# Altium footprint library Passive components.PcbLib: 16 footprints
Each footprint in its own frame and in the unit in brackets; x right, y up, seen from the top. Pads: shape width x height; smd on the part's side, far side on the other; paste and mask are expansions set on the pad; w line width, h text height; cw(c..) or ccw(c..) is an arc to the next point about the centre after c.
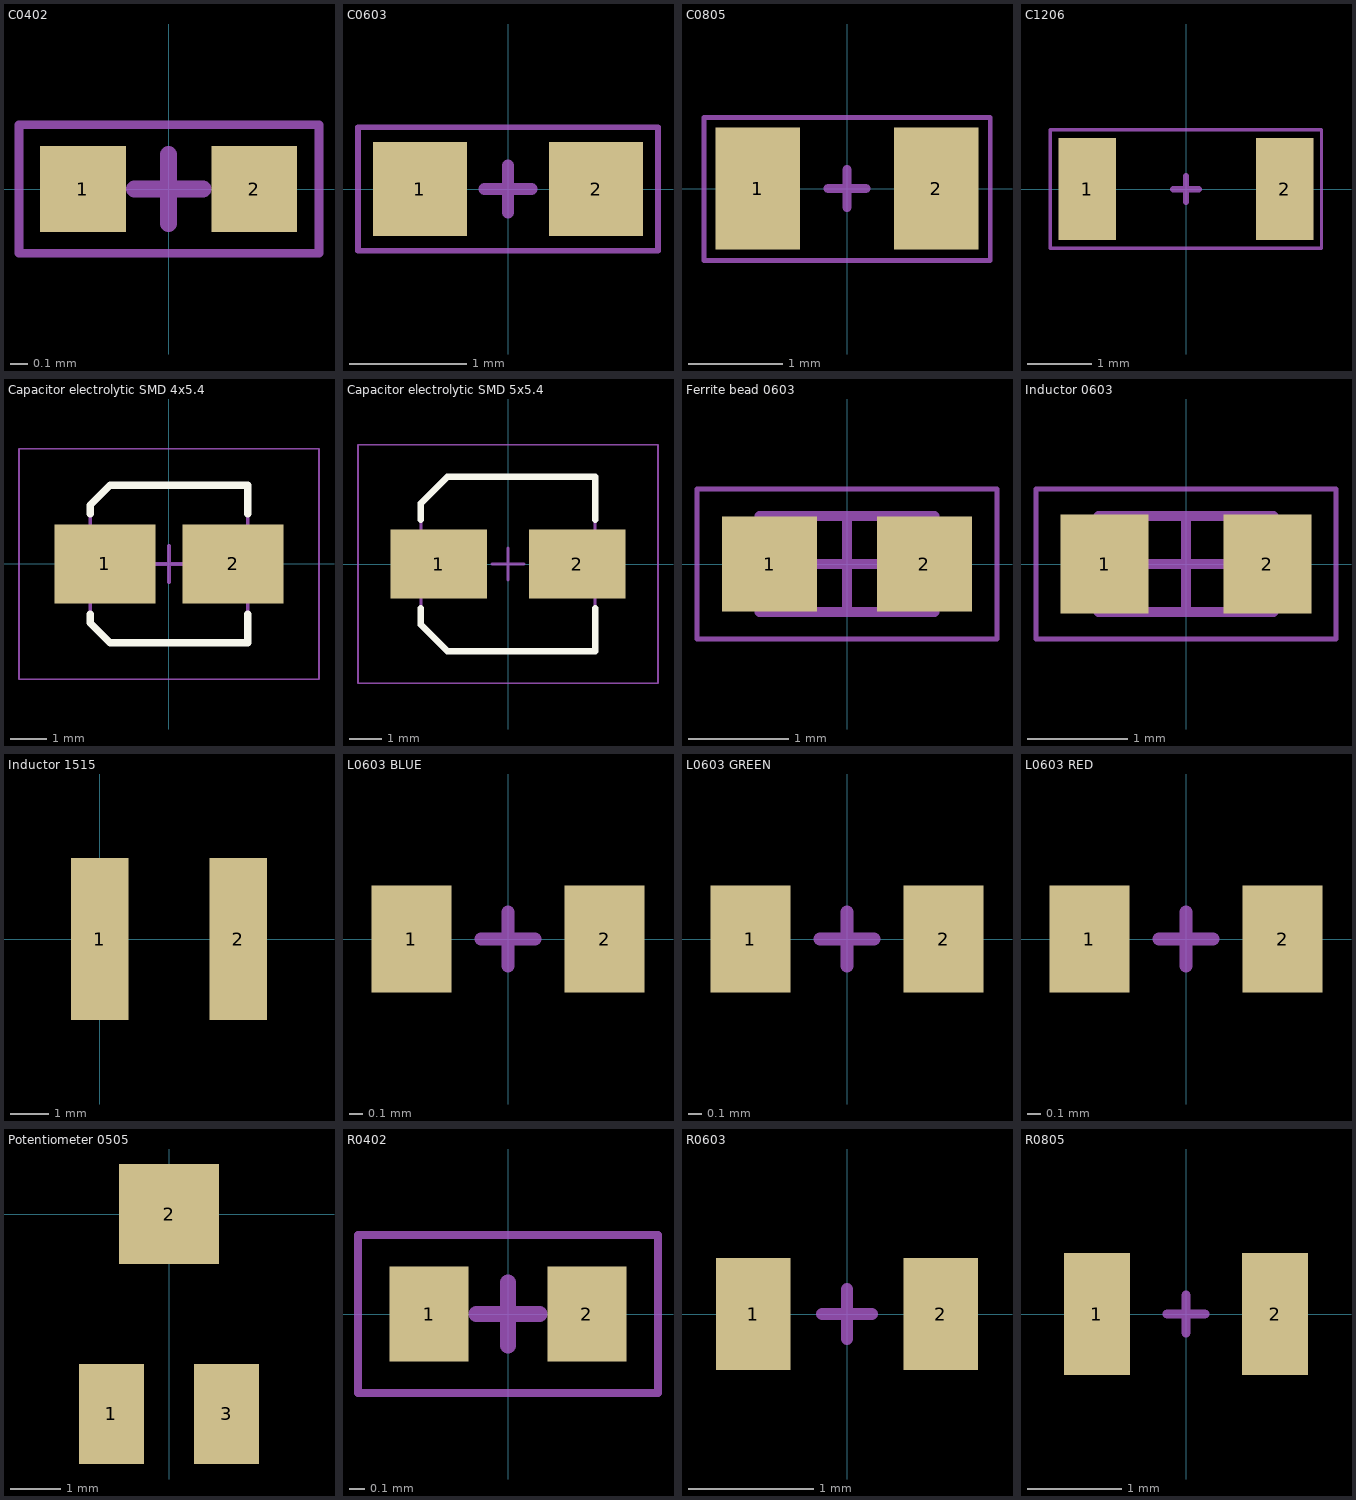
[diagram p0: the footprints below, top view; thin cyan lines are the x and y axes]

## C0402 [mm]
pads (2):
  rect 0.5x0.5 smd: 1(-0.5,0) 2(0.5,0)
Courtyard Top:
  lines w0.05: -0.873,-0.375 -0.873,0.376 0.877,0.376 0.877,-0.375 -0.873,-0.375
  lines w0.1: -0.2,0 0.2,0 ; 0,-0.2 0,0.2
3D body "User Library-C0402-1.STEP": height 0.5, standoff 0, extent -0.498,-0.25 0.498,0.25

## C0603 [mm]
pads (2):
  rect 0.8x0.8 smd: 1(-0.75,0) 2(0.75,0)
Courtyard Top:
  lines w0.05: -1.277,-0.525 -1.277,0.525 1.276,0.525 1.276,-0.525 -1.277,-0.525
  lines w0.1: -0.2,0 0.2,0 ; 0,-0.2 0,0.2
3D body "User Library-C0603-2.STEP": height 0.8, standoff 0, extent -0.8,-0.4 0.8,0.4

## C0805 [mm]
pads (2):
  rect 0.9x1.3 smd: 1(-0.95,0) 2(0.95,0)
Courtyard Top:
  lines w0.05: -1.525,-0.768 -1.525,0.758 1.527,0.758 1.527,-0.768 -1.525,-0.768
  lines w0.1: -0.2,0 0.2,0 ; 0,-0.2 0,0.2
3D body "User Library-C0805-2.STEP": height 0.8, standoff 0, extent -1,-0.625 1,0.625

## C1206 [mm]
pads (2):
  rect 0.9x1.6 smd: 1(-1.55,0) 2(1.55,0)
Courtyard Top:
  lines w0.05: -2.128,-0.926 -2.128,0.931 2.123,0.931 2.123,-0.926 -2.128,-0.926
  lines w0.1: -0.2,0 0.2,0 ; 0,-0.2 0,0.2
3D body "User Library-Chip Cap_MLCC_1206 (3216)_D.STEP": height 1.25, standoff 0, extent -1.6,-0.8 1.6,0.8

## Capacitor electrolytic SMD 4x5.4 [mm] "Aluminum Electrolytic Capacitor, Body 4.30x4.30x5.40mm, IPC Low Density"
height 5.4
pads (2):
  rect 2.75x2.15 smd: 1(-1.75,0) 2(1.75,0)
Top Overlay:
  lines w0.2: -2.15,-1.375 -2.15,-1.613 -1.612,-2.15 2.15,-2.15 2.15,-1.375 ; -2.15,1.375 -2.15,1.612 -1.612,2.15 2.15,2.15 2.15,1.375
Assembly Top:
  lines w0.1: -2.15,-1.613 -2.15,1.612 -1.612,2.15 2.15,2.15 2.15,-2.15 -1.612,-2.15 -2.15,-1.613
Courtyard Top:
  lines w0.05: -4.1,-3.15 4.1,-3.15 4.1,3.15 -4.1,3.15 -4.1,-3.15
  lines w0.1: -0.5,0 0.5,0 ; 0,-0.5 0,0.5
3D body "CAPAE4643X54M.step": height 5.4, standoff 0, extent -2.3,-2.15 2.3,2.15

## Capacitor electrolytic SMD 5x5.4 [mm] "Aluminum Electrolytic Capacitor, Body 5.30x5.30x5.40mm, IPC Low Density"
height 5.4
pads (2):
  rect 3x2.15 smd: 1(-2.15,0) 2(2.15,0)
Top Overlay:
  lines w0.2: -2.7,-1.375 -2.7,-1.888 -1.888,-2.7 2.7,-2.7 2.7,-1.375 ; -2.7,1.375 -2.7,1.887 -1.888,2.7 2.7,2.7 2.7,1.375
Assembly Top:
  lines w0.1: -2.7,-1.888 -2.7,1.887 -1.888,2.7 2.7,2.7 2.7,-2.7 -1.888,-2.7 -2.7,-1.888
Courtyard Top:
  lines w0.05: -4.65,-3.7 4.65,-3.7 4.65,3.7 -4.65,3.7 -4.65,-3.7
  lines w0.1: -0.5,0 0.5,0 ; 0,-0.5 0,0.5
3D body "CAPAE5753X54M.step": height 5.4, standoff 0, extent -2.85,-2.7 2.85,2.7

## Ferrite bead 0603 [mm]
height 0.91
pads (2):
  rect 0.95x0.95 smd: 1(-0.775,0) 2(0.775,0)
Assembly Top:
  lines w0.1: -0.875,-0.48 -0.875,0.48 0.875,0.48 0.875,-0.48 -0.875,-0.48
Courtyard Top:
  lines w0.05: -1.5,-0.75 -1.5,0.75 1.5,0.75 1.5,-0.75 -1.5,-0.75
  lines w0.1: -0.48,0 0.48,0 ; 0,-0.48 0,0.48
3D body "RESC1608X09N.step": height 0.91, standoff 0, extent -0.875,-0.48 0.875,0.48

## Inductor 0603 [mm]
height 0.91
pads (2):
  rect 0.88x0.99 smd: 1(-0.815,0) 2(0.815,0)
Assembly Top:
  lines w0.1: -0.875,-0.48 0.875,-0.48 0.875,0.48 -0.875,0.48 -0.875,-0.48
Courtyard Top:
  lines w0.05: -1.5,-0.75 1.5,-0.75 1.5,0.75 -1.5,0.75 -1.5,-0.75
  lines w0.1: -0.48,0 0.48,0 ; 0,-0.48 0,0.48
3D body "INDC1608X09N.step": height 0.91, standoff 0, extent -0.875,-0.48 0.875,0.48

## Inductor 1515 [mm]
pads (2):
  rect 1.5x4.2 smd: 1(0,0) 2(3.6,0)
3D body: height 2.35, standoff -3.4, extent -0.761,-7.872 -0.761,-7.872
3D body "45504.stp": height 3.6, standoff -0.5, extent -1.873,-3.52 5.427,3.78

## L0603 BLUE [mm]
pads (2):
  rect 0.6x0.8 smd: 1(-0.725,0) 2(0.725,0)
Courtyard Top:
  lines w0.1: -0.2,0 0.2,0 ; 0,-0.2 0,0.2
3D body "User Library-LED_0603_B.STEP": height 0.6, standoff 0, extent -0.8,-0.4 0.8,0.4

## L0603 GREEN [mm]
pads (2):
  rect 0.6x0.8 smd: 1(-0.725,0) 2(0.725,0)
Courtyard Top:
  lines w0.1: -0.2,0 0.2,0 ; 0,-0.2 0,0.2
3D body "User Library-LED_0603_G.STEP": height 0.6, standoff 0, extent -0.8,-0.4 0.8,0.4

## L0603 RED [mm]
pads (2):
  rect 0.6x0.8 smd: 1(-0.725,0) 2(0.725,0)
Courtyard Top:
  lines w0.1: -0.2,0 0.2,0 ; 0,-0.2 0,0.2
3D body "User Library-LED_0603_R.STEP": height 0.6, standoff 0, extent -0.8,-0.4 0.8,0.4

## Potentiometer 0505 [mm]
pads (3):
  rect 1.3x2 smd: 1(-1.15,-4) 3(1.15,-4)
  rect 2x2 smd: 2(0,0)
3D body "User Library-TRIMMER_PVG3A.STEP": height 2, standoff 0, extent -1.7,-3.75 1.7,-0.15

## R0402 [mm]
pads (2):
  rect 0.5x0.6 smd: 1(-0.5,0) 2(0.5,0)
Courtyard Top:
  lines w0.05: -0.95,-0.5 0.95,-0.5 ; -0.95,-0.5 -0.95,0.5 0.95,0.5 0.95,-0.5 ; -0.95,-0.5 0.95,-0.5
  lines w0.1: -0.2,0 0.2,0 ; 0,-0.2 0,0.2
3D body "User Library-R_0402.STEP": height 0.35, standoff 0, extent -0.5,-0.25 0.5,0.25

## R0603 [mm]
pads (2):
  rect 0.6x0.9 smd: 1(-0.75,0) 2(0.75,0)
Courtyard Top:
  lines w0.1: -0.2,0 0.2,0 ; 0,-0.2 0,0.2
3D body "User Library-R_0603.STEP": height 0.5, standoff 0, extent -0.8,-0.45 0.8,0.45

## R0805 [mm]
pads (2):
  rect 0.7x1.3 smd: 1(-0.95,0) 2(0.95,0)
Courtyard Top:
  lines w0.1: -0.2,0 0.2,0 ; 0,-0.2 0,0.2
3D body "User Library-R_0805.STEP": height 0.5, standoff 0, extent -1,-0.625 1,0.625